# Altium schematic symbol library at32f415.SchLib: 7 symbols
Pins are listed as number, name and electrical type; pins without a type are passive.

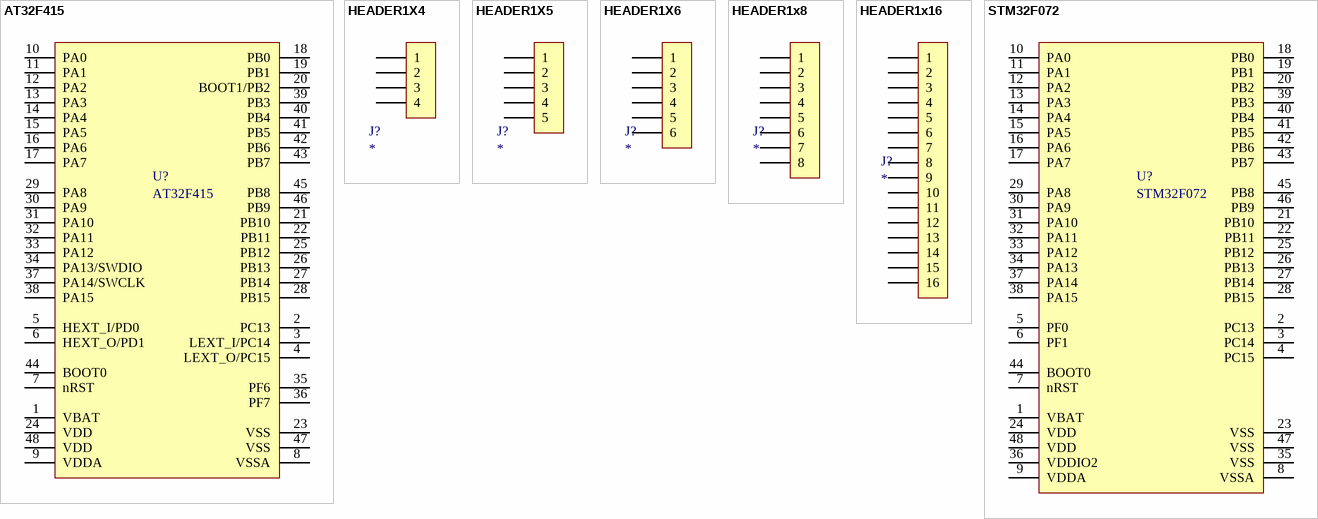
[diagram p0: symbols AT32F415 to STM32F072]

## AT32F415
designator U?
Cortex-M4 MCU
footprint LQFP48_M
pins: 1 VBAT, 2 PC13, 3 LEXT_I/PC14, 4 LEXT_O/PC15, 5 HEXT_I/PD0, 6 HEXT_O/PD1, 7 nRST, 8 VSSA, 9 VDDA, 10 PA0, 11 PA1, 12 PA2, 13 PA3, 14 PA4, 15 PA5, 16 PA6, 17 PA7, 18 PB0, 19 PB1, 20 BOOT1/PB2, 21 PB10, 22 PB11, 23 VSS, 24 VDD, 25 PB12, 26 PB13, 27 PB14, 28 PB15, 29 PA8, 30 PA9, 31 PA10, 32 PA11, 33 PA12, 34 PA13/SWDIO, 35 PF6, 36 PF7, 37 PA14/SWCLK, 38 PA15, 39 PB3, 40 PB4, 41 PB5, 42 PB6, 43 PB7, 44 BOOT0, 45 PB8, 46 PB9, 47 VSS, 48 VDD

## HEADER1X4
designator J?
100mil, 1x4 header
footprint HDR1X4 (Connector; Header; 4 Position)
pins: 1, 2, 3, 4

## HEADER1X5
designator J?
100mil, 1x5 header
footprint HDR1X5 (Connector; Header; 5 Position)
pins: 1, 2, 3, 4, 5

## HEADER1X6
designator J?
100mil, 1x6 header
footprint HDR1X6 (Connector; Header; 4 Position)
pins: 1, 2, 3, 4, 5, 6

## HEADER1x8
designator J?
100mil, 1x8 header
footprint HDR1X8 (Connector; Header; 4 Position)
pins: 1, 2, 3, 4, 5, 6, 7, 8

## HEADER1x16
designator J?
100mil, 1x16 header
footprint HDR1X16 (Connector; Header; 16 Position)
pins: 1, 2, 3, 4, 5, 6, 7, 8, 9, 10, 11, 12, 13, 14, 15, 16

## STM32F072
designator U?
Cortex-M0 MCU
footprint LQFP48_M
pins: 1 VBAT, 2 PC13, 3 PC14, 4 PC15, 5 PF0, 6 PF1, 7 nRST, 8 VSSA, 9 VDDA, 10 PA0, 11 PA1, 12 PA2, 13 PA3, 14 PA4, 15 PA5, 16 PA6, 17 PA7, 18 PB0, 19 PB1, 20 PB2, 21 PB10, 22 PB11, 23 VSS, 24 VDD, 25 PB12, 26 PB13, 27 PB14, 28 PB15, 29 PA8, 30 PA9, 31 PA10, 32 PA11, 33 PA12, 34 PA13, 35 VSS, 36 VDDIO2, 37 PA14, 38 PA15, 39 PB3, 40 PB4, 41 PB5, 42 PB6, 43 PB7, 44 BOOT0, 45 PB8, 46 PB9, 47 VSS, 48 VDD